# Altium schematic symbol library Condensator1nF.SchLib: 1 symbol
Pins are listed as number, name and electrical type; pins without a type are passive.

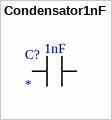
[diagram p0: symbol Condensator1nF]

## Condensator1nF
designator C?
footprint CAPC1206X18M (Chip Capacitor, 2-Leads, Body 3.20x1.60mm, IPC Low Density)
pins: 1 (power), 2 (power)
text: 1nF